# Altium footprint library SMD-Packages.PcbLib: 26 footprints (part 2 of 2)
Each footprint in its own frame and in the unit in brackets; x right, y up, seen from the top. Pads: shape width x height; smd on the part's side, far side on the other; paste and mask are expansions set on the pad; w line width, h text height; cw(c..) or ccw(c..) is an arc to the next point about the centre after c.
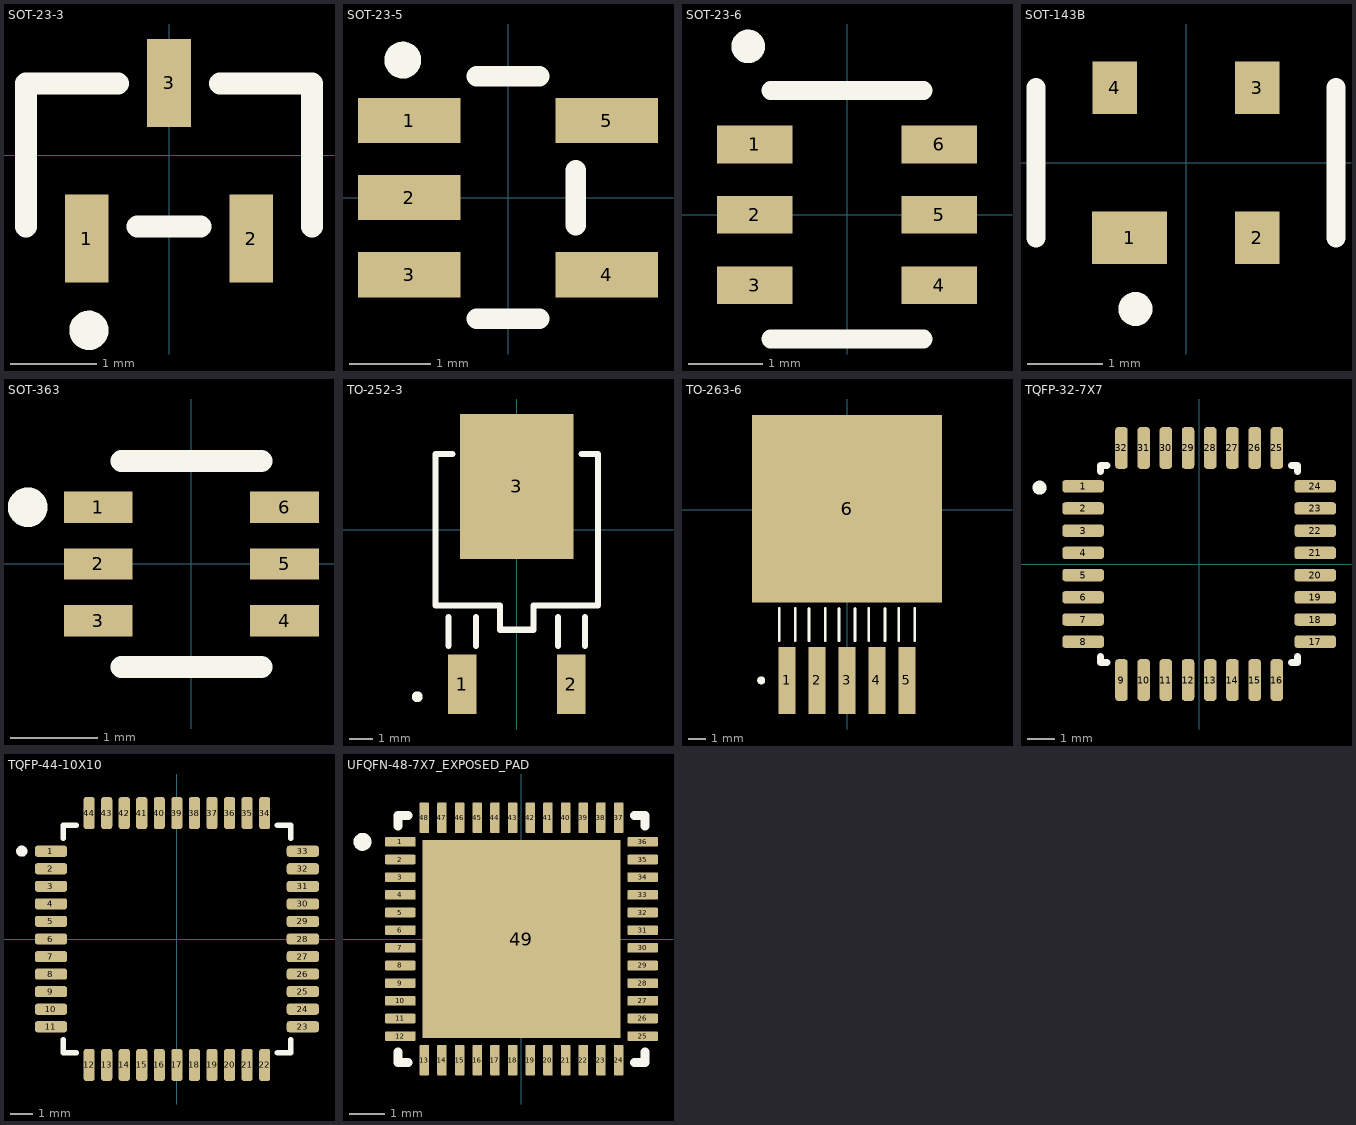
[diagram p1: the footprints below, top view; thin cyan lines are the x and y axes]

## SOT-23-3 [mil]
pads (3):
  rect 20x40 smd paste+5.25 mask+5: 1(-37.4,-38) 2(37.4,-38) 3(0,32.75)
Top Overlay:
  circle w10: c-36.42,-79.72 r3.94
  lines w10: -65,-32.5 -65,32.5 -23.1,32.5 ; -14.3,-32.5 14.3,-32.5 ; 23.1,32.5 65,32.5 65,-32.5
3D body "LM4040DIM3-2.5_NOPB.step": height 44.09, standoff 0, extent -57.48,-46.65 57.48,46.65

## SOT-23-5 [mil]
pads (5):
  rect 50x22 smd paste-25 mask-25: 1(-48,37.5) 2(-48,0) 3(-48,-37.5) 4(48,-37.5) 5(48,37.5)
Top Overlay:
  circle w10: c-51.18,66.93 r3.94
  lines w10: -15.17,-59 15.17,-59 ; -15.17,59 15.17,59 ; 33,-13.4 33,13.4
3D body "LM3671MFX-3.3_NOPB.step": height 57.09, standoff 0, extent -55.12,-57.09 55.12,57.09

## SOT-23-6 [mil]
pads (6):
  rect 40x20 smd paste+0: 1(-49,37.4) 2(-49,0) 3(-49,-37.4) 4(49,-37.4) 5(49,0) 6(49,37.4)
Top Overlay:
  circle w10: c-52.51,89.5 r3.94
  lines w10: -40.5,-66 40.5,-66 ; -40.5,66 40.5,66
3D body "SOT23-6.step": height 43.31, standoff 0, extent -49.21,-59.06 49.21,59.06

## SOT-143B [mm]
pads (4):
  rect 1x0.7 smd: 1(-0.75,-1)
  rect 0.6x0.7 smd: 2(0.95,-1) 3(0.95,1) 4(-0.95,1)
Top Overlay:
  circle w0.254: c-0.675,-1.95 r0.1
  lines w0.254: -2,-1 -2,1 ; 2,-1 2,1
Top Paste:
  region: -0.3,-1.302 -1.202,-1.302 -1.202,-0.7 -0.3,-0.7
  region: 1.2,-1.301 0.701,-1.301 0.701,-0.7 1.2,-0.7
  region: 1.2,0.701 0.701,0.701 0.701,1.3 1.2,1.3
  region: -0.7,0.701 -1.202,0.701 -1.202,1.3 -0.7,1.3
3D body "PRTR5V0U2X_215.step": height 1.1, standoff 0, extent -1.45,-1.15 1.45,1.15

## SOT-363 [mil]
pads (6):
  rect 31x14 smd paste+0 mask+0: 1(-42,25.59) 2(-42,0) 3(-42,-25.59) 4(42,-25.59) 5(42,0) 6(42,25.59)
Top Overlay:
  circle w10: c-73.82,25.59 r3.94
  lines w10: -31.5,-46.5 31.5,-46.5 ; -31.5,46.5 31.5,46.5
3D body "UMH3NFHATN.step": height 39.37, standoff 0, extent -41.34,-39.37 41.34,39.37

## TO-252-3 [mil]
pads (3):
  rect 47x98 smd paste+0 mask+0: 1(-90,-255) 2(90,-255)
  rect 187x239 smd paste+0 mask+0: 3(0,71.5)
Top Overlay:
  circle w10: c-164.37,-275.59 r3.94
  lines w10: -112.5,-192 -112.5,-144 ; -106.6,125 -134,125 -134,-125 -27.5,-125 -27.5,-165 27.5,-165 27.5,-125 134,-125 134,125 106.6,125 ; -67.5,-192 -67.5,-144 ; 67.5,-192 67.5,-144 ; 112.5,-192 112.5,-144
3D body "TO252-DPAK.STP": height 90.16, standoff -3.44, extent -129.53,-270.5 129.56,120.08

## TO-263-6 [mil]
pads (6):
  rect 38x150 smd paste+0 mask+0: 1(-133.86,-382) 2(-66.93,-382) 3(0,-382) 4(66.93,-382) 5(133.86,-382)
  rect 424x420 smd paste+0 mask+0: 6(0,2)
Top Overlay:
  circle w10: c-191.93,-381.89 r3.94
  lines w6: -151.86,-293 -151.86,-221.1 ; -115.86,-293 -115.86,-221.1 ; -84.93,-293 -84.93,-221.1 ; -48.93,-293 -48.93,-221.1 ; -18,-293 -18,-221.1 ; 18,-293 18,-221.1 ; 48.93,-293 48.93,-221.1 ; 84.93,-293 84.93,-221.1 ; 115.86,-293 115.86,-221.1 ; 151.86,-293 151.86,-221.1
3D body "TL2575-05IKTTR.step": height 183, standoff -6, extent -200,-380.93 200,184.07

## TQFP-32-7X7 [mm]
pads (32):
  rrect50% 1.5x0.45 smd: 1(-4.18,2.8) 2(-4.18,2) 3(-4.18,1.2) 4(-4.18,0.4) 5(-4.18,-0.4) 6(-4.18,-1.2) 7(-4.18,-2) 8(-4.18,-2.8) 17(4.18,-2.8) 18(4.18,-2) 19(4.18,-1.2) 20(4.18,-0.4) 21(4.18,0.4) 22(4.18,1.2) 23(4.18,2) 24(4.18,2.8)
  rrect50% 0.45x1.5 smd: 9(-2.8,-4.18) 10(-2,-4.18) 11(-1.2,-4.18) 12(-0.4,-4.18) 13(0.4,-4.18) 14(1.2,-4.18) 15(2,-4.18) 16(2.8,-4.18) 25(2.8,4.18) 26(2,4.18) 27(1.2,4.18) 28(0.4,4.18) 29(-0.4,4.18) 30(-1.2,4.18) 31(-2,4.18) 32(-2.8,4.18)
Top Overlay:
  circle w0.254: c-5.75,2.75 r0.127
  lines w0.254: -3.55,-3.325 -3.55,-3.55 -3.325,-3.55 ; -3.55,3.325 -3.55,3.55 -3.325,3.55 ; 3.325,-3.55 3.55,-3.55 3.55,-3.325 ; 3.325,3.55 3.55,3.55 3.55,3.325
3D body "step_temp.STEP": height 1.2, standoff 0, extent -4.5,-4.5 4.5,4.5

## TQFP-44-10X10 [mil]
pads (44):
  rrect50% 58x20 smd paste+0: 1(-226,157.48) 2(-226,125.98) 3(-226,94.49) 4(-226,62.99) 5(-226,31.5) 6(-226,0) 7(-226,-31.5) 8(-226,-62.99) 9(-226,-94.49) 10(-226,-125.98) 11(-226,-157.48) 23(226,-157.48) 24(226,-125.98) 25(226,-94.49) 26(226,-62.99) 27(226,-31.5) 28(226,0) 29(226,31.5) 30(226,62.99) 31(226,94.49) 32(226,125.98) 33(226,157.48)
  rrect50% 20x58 smd paste+0: 12(-157.48,-226) 13(-125.98,-226) 14(-94.49,-226) 15(-62.99,-226) 16(-31.5,-226) 17(0,-226) 18(31.5,-226) 19(62.99,-226) 20(94.49,-226) 21(125.98,-226) 22(157.48,-226) 34(157.48,226) 35(125.98,226) 36(94.49,226) 37(62.99,226) 38(31.5,226) 39(0,226) 40(-31.5,226) 41(-62.99,226) 42(-94.49,226) 43(-125.98,226) 44(-157.48,226)
Top Overlay:
  circle w10: c-278.35,157.68 r5
  lines w10: -204,-180.58 -204,-204 -180.58,-204 ; -204,180.58 -204,204 -180.58,204 ; 180.58,-204 204,-204 204,-180.58 ; 180.58,204 204,204 204,180.58
3D body "ATMEGA32A-AUR.step": height 47.24, standoff 0, extent -236.22,-236.22 236.22,236.22

## UFQFN-48-7X7_EXPOSED_PAD [mm]
pads (49):
  rrect25% 0.87x0.27 smd: 1(-3.43,2.75) 2(-3.43,2.25) 3(-3.43,1.75) 4(-3.43,1.25) 5(-3.43,0.75) 6(-3.43,0.25) 7(-3.43,-0.25) 8(-3.43,-0.75) 9(-3.43,-1.25) 10(-3.43,-1.75) 11(-3.43,-2.25) 12(-3.43,-2.75) 25(3.43,-2.75) 26(3.43,-2.25) 27(3.43,-1.75) 28(3.43,-1.25) 29(3.43,-0.75) 30(3.43,-0.25) 31(3.43,0.25) 32(3.43,0.75) 33(3.43,1.25) 34(3.43,1.75) 35(3.43,2.25) 36(3.43,2.75)
  rrect25% 0.27x0.87 smd: 13(-2.75,-3.43) 14(-2.25,-3.43) 15(-1.75,-3.43) 16(-1.25,-3.43) 17(-0.75,-3.43) 18(-0.25,-3.43) 19(0.25,-3.43) 20(0.75,-3.43) 21(1.25,-3.43) 22(1.75,-3.43) 23(2.25,-3.43) 24(2.75,-3.43) 37(2.75,3.43) 38(2.25,3.43) 39(1.75,3.43) 40(1.25,3.43) 41(0.75,3.43) 42(0.25,3.43) 43(-0.25,3.43) 44(-0.75,3.43) 45(-1.25,3.43) 46(-1.75,3.43) 47(-2.25,3.43) 48(-2.75,3.43)
  rect 5.6x5.6 smd paste-4: 49(0,0)
Top Overlay:
  circle w0.254: c-4.5,2.75 r0.127
  lines w0.254: -3.5,-3.205 -3.5,-3.5 -3.205,-3.5 ; -3.5,3.205 -3.5,3.5 -3.205,3.5 ; 3.205,-3.5 3.5,-3.5 3.5,-3.205 ; 3.205,3.5 3.5,3.5 3.5,3.205
Top Paste:
  region: 2.29,-2.29 0.51,-2.29 0.51,-0.51 2.29,-0.51
  region: -0.51,-2.29 -2.29,-2.29 -2.29,-0.51 -0.51,-0.51
  region: 2.29,0.51 0.51,0.51 0.51,2.29 2.29,2.29
  region: -0.51,0.51 -2.29,0.51 -2.29,2.29 -0.51,2.29
3D body "48-UFQFN_EXPOSED-PAD.STEP": height 0.6, standoff 0, extent -3.5,-3.5 3.5,3.5